# Altium footprint library AFE_Breakout.PcbLib: 2 footprints
Each footprint in its own frame and in the unit in brackets; x right, y up, seen from the top. Pads: shape width x height; smd on the part's side, far side on the other; paste and mask are expansions set on the pad; w line width, h text height; cw(c..) or ccw(c..) is an arc to the next point about the centre after c.
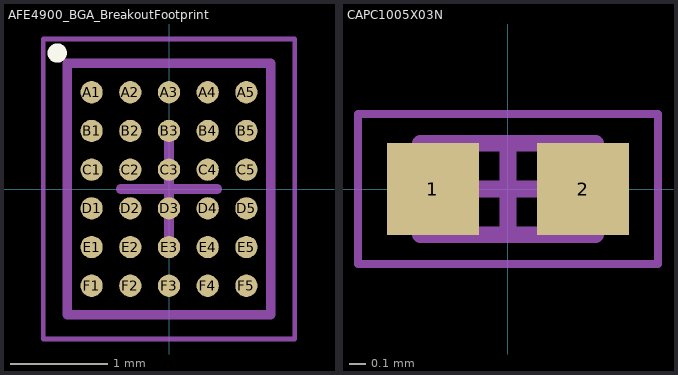
[diagram p0: the footprints below, top view; thin cyan lines are the x and y axes]

## AFE4900_BGA_BreakoutFootprint [mm] "BGA, 30-Leads, Body 2.10x2.60mmx0.50mm, Pitch 0.40mm"
height 0.5
pads (30):
  round 0.23 smd: A1(-0.8,1) A2(-0.4,1) A3(0,1) A4(0.4,1) A5(0.8,1) B1(-0.8,0.6) B2(-0.4,0.6) B3(0,0.6) B4(0.4,0.6) B5(0.8,0.6) C1(-0.8,0.2) C2(-0.4,0.2) C3(0,0.2) C4(0.4,0.2) C5(0.8,0.2) D1(-0.8,-0.2) D2(-0.4,-0.2) D3(0,-0.2) D4(0.4,-0.2) D5(0.8,-0.2) E1(-0.8,-0.6) E2(-0.4,-0.6) E3(0,-0.6) E4(0.4,-0.6) E5(0.8,-0.6) F1(-0.8,-1) F2(-0.4,-1) F3(0,-1) F4(0.4,-1) F5(0.8,-1)
Top Overlay:
  circle w0.1: c-1.155,1.405 r0.05
Mechanical 13:
  lines w0.1: -1.05,-1.3 1.05,-1.3 1.05,1.3 -1.05,1.3 -1.05,-1.3
Mechanical 15:
  lines w0.05: -1.3,-1.55 1.3,-1.55 1.3,1.55 -1.3,1.55 -1.3,-1.55
  lines w0.1: -0.5,0 0.5,0 ; 0,-0.5 0,0.5
3D body "AFE4900_BGA30C40P5X6_210X260X50.step": height 0.5, standoff 0, extent -1.05,-1.3 1.05,1.3

## CAPC1005X03N [mm] "Chip Capacitor, 2-Leads, Body 1,00x0,50mm, IPC Medium Density, 0402"
height 0.35
pads (2):
  rect 0.55x0.55 smd: 1(-0.45,0) 2(0.45,0)
Mechanical 13:
  lines w0.1: -0.525,-0.275 -0.525,0.275 0.525,0.275 0.525,-0.275 -0.525,-0.275
Mechanical 15:
  lines w0.05: -0.9,-0.45 -0.9,0.45 0.9,0.45 0.9,-0.45 -0.9,-0.45
  lines w0.1: -0.275,0 0.275,0 ; 0,-0.275 0,0.275
3D body "CAPC1005X03N.step": height 0.35, standoff 0, extent -0.525,-0.275 0.525,0.275